# EAGLE library part 61002821821 (library Board-to-Board (rev18a))
WR-PHD 2.54mm SMT Socket Header=>Code : Con_BTB_SHD_2.54_1_SMT_610x0421821(packageing:x = 0: Tube x = 3: Tape & Reel with Cap; 600 pcs/Reel) <http://katalog.we-online.de/media/images/eican/Con_BTB_SHD_2.54_1_SMT_6100xx21821_pf2.jpg> 6100xx21821 Details see: http://katalog.we-online.de/en/em/PHD_2_54_SMT_DUAL_SOCKET_HEADER_6100XX21821 6103xx21821 2014 (C) Würth Elektronik
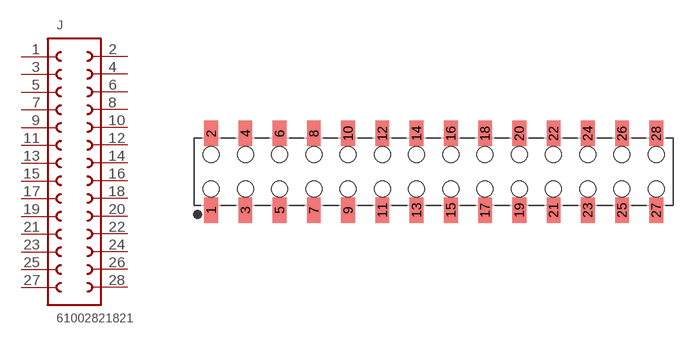
[diagram p213: symbol with the pads of 61002821821; footprint 61002821821]

Designator prefix J

## 61002821821  [61002821821]
1  1  pas
2  28  pas
3  2  pas
4  27  pas
5  3  pas
6  26  pas
7  4  pas
8  25  pas
9  5  pas
10  24  pas
11  6  pas
12  23  pas
13  7  pas
14  22  pas
15  8  pas
16  21  pas
17  9  pas
18  20  pas
19  10  pas
20  19  pas
21  11  pas
22  18  pas
23  12  pas
24  17  pas
25  13  pas
26  16  pas
27  14  pas
28  15  pas

## Footprint 61002821821 (pad centres in mm)
WR-PHD 2.54mm Dual SMT Socket Header, 28 Pins
smd 1.02 x 1.9: 1 -16.51,-2.85; 2 -16.51,2.85; 3 -13.97,-2.85; 4 -13.97,2.85; 5 -11.43,-2.85; 6 -11.43,2.85; 7 -8.89,-2.85; 8 -8.89,2.85; 9 -6.35,-2.85; 10 -6.35,2.85; 11 -3.81,-2.85; 12 -3.81,2.85; 13 -1.27,-2.85; 14 -1.27,2.85; 15 1.27,-2.85; 16 1.27,2.85; 17 3.81,-2.85; 18 3.81,2.85; 19 6.35,-2.85; 20 6.35,2.85; 21 8.89,-2.85; 22 8.89,2.85; 23 11.43,-2.85; 24 11.43,2.85; 25 13.97,-2.85; 26 13.97,2.85; 27 16.51,-2.85; 28 16.51,2.85
hole 1.2 at -16.51,-1.27
hole 1.2 at -13.97,-1.27
hole 1.2 at -13.97,1.27
hole 1.2 at -16.51,1.27
hole 1.2 at -11.43,-1.27
hole 1.2 at -11.43,1.27
hole 1.2 at -8.89,1.27
hole 1.2 at -8.89,-1.27
hole 1.2 at -6.35,-1.27
hole 1.2 at -6.35,1.27
hole 1.2 at -3.81,-1.27
hole 1.2 at -3.81,1.27
hole 1.2 at -1.27,1.27
hole 1.2 at -1.27,-1.27
hole 1.2 at 1.27,1.27
hole 1.2 at 1.27,-1.27
hole 1.2 at 3.81,-1.27
hole 1.2 at 3.81,1.27
hole 1.2 at 6.35,-1.27
hole 1.2 at 6.35,1.27
hole 1.2 at 8.89,1.27
hole 1.2 at 8.89,-1.27
hole 1.2 at 11.43,-1.27
hole 1.2 at 11.43,1.27
hole 1.2 at 13.97,-1.27
hole 1.2 at 13.97,1.27
hole 1.2 at 16.51,-1.27
hole 1.2 at 16.51,1.27